# EAGLE library part STM32F070F6 (library ICs)
ARM® Cortex®-M0 STM32F0 Microcontroller IC 32-Bit 48MHz 6kB RAM 32KB (32K x 8) FLASH 20-TSSOP
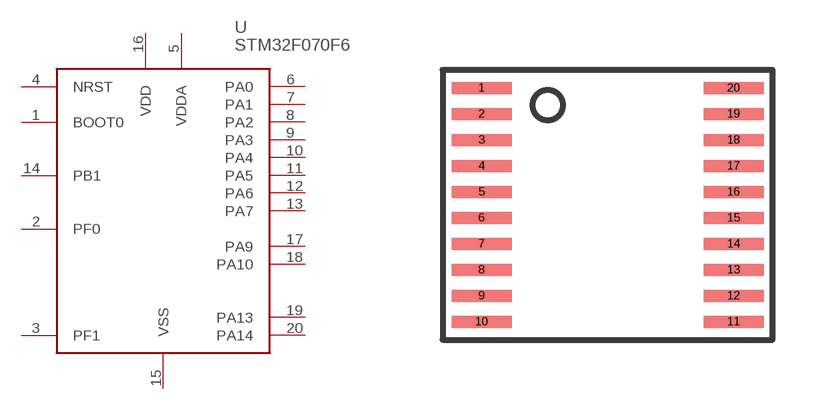
[diagram p188: symbol with the pads of SSOP20-4.5MM; footprint SSOP20-4.5MM]

Designator prefix U

## STM32F070F6 (DIGIKEY: 497-17354-1-ND; HEIGHT: 1.3; PRICE_PER: 1.14; VALUE: STM32F070F6)  [SSOP20-4.5MM]
1  BOOT0
2  PF0
3  PF1
4  NRST
5  VDDA
6  PA0
7  PA1
8  PA2
9  PA3
10  PA4
11  PA5
12  PA6
13  PA7
14  PB1
15  VSS
16  VDD
17  PA9
18  PA10
19  PA13
20  PA14

## Footprint SSOP20-4.5MM (pad centres in mm)
smd 1.5 x 0.3: 1 -3.15,2.925; 2 -3.15,2.275; 3 -3.15,1.625; 4 -3.15,0.975; 5 -3.15,0.325; 6 -3.15,-0.325; 7 -3.15,-0.975; 8 -3.15,-1.625; 9 -3.15,-2.275; 10 -3.15,-2.925; 11 3.15,-2.925; 12 3.15,-2.275; 13 3.15,-1.625; 14 3.15,-0.975; 15 3.15,-0.325; 16 3.15,0.325; 17 3.15,0.975; 18 3.15,1.625; 19 3.15,2.275; 20 3.15,2.925